# Altium footprint library Connector_Phoenix_MSTB.PcbLib: 180 footprints (part 8 of 12)
Each footprint in its own frame and in the unit in brackets; x right, y up, seen from the top. Pads: shape width x height; smd on the part's side, far side on the other; paste and mask are expansions set on the pad; w line width, h text height; cw(c..) or ccw(c..) is an arc to the next point about the centre after c.
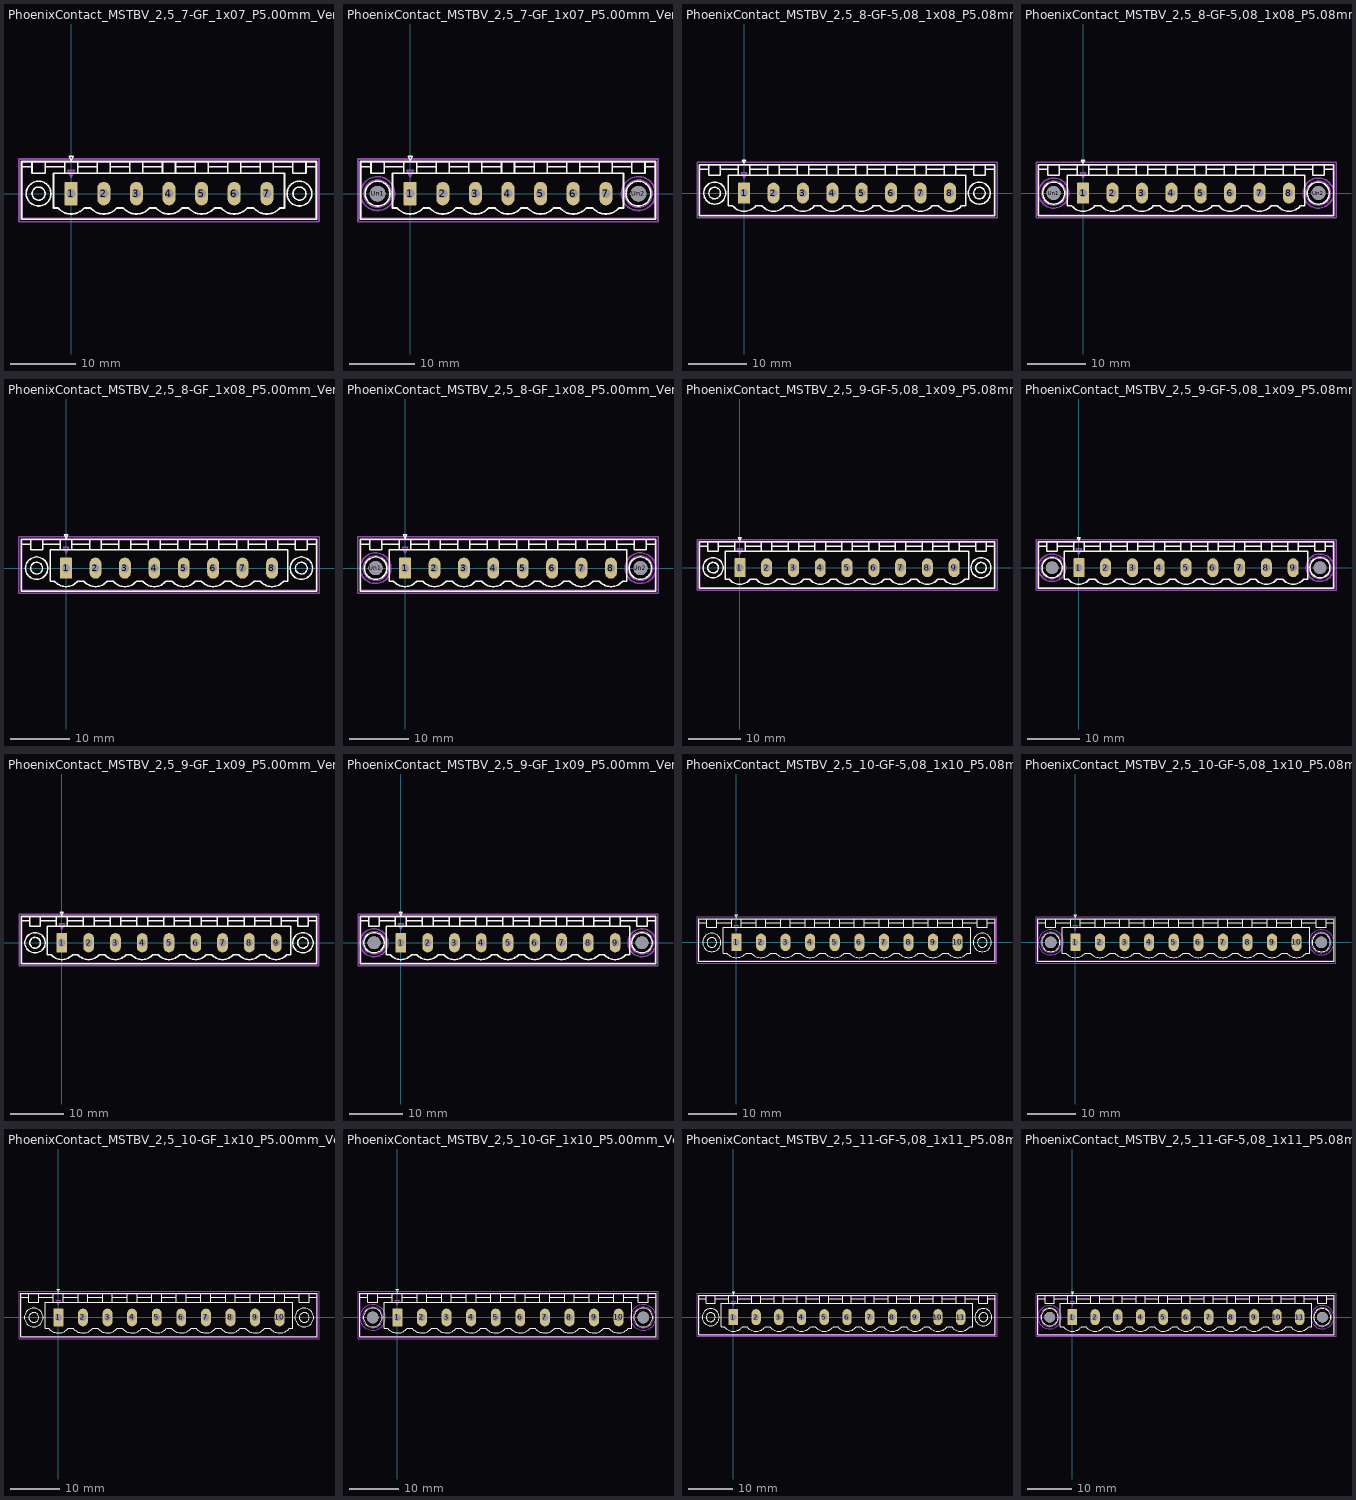
[diagram p7: the footprints below, top view; thin cyan lines are the x and y axes]

## PhoenixContact_MSTBV_2,5_7-GF_1x07_P5.00mm_Vertical_ThreadedFlange [mm]
pads (7):
  rrect12% 2x3.6 hole 1.4: 1(0,0)
  rrect100% 2x3.6 hole 1.4: 2(5,0) 3(10,0) 4(15,0) 5(20,0) 6(25,0) 7(30,0)
F.SilkS:
  circle w0.254: c35,0 r1.9
  circle w0.254: c35,0 r1
  circle w0.254: c-5,0 r1.9
  circle w0.254: c-5,0 r1
  lines w0.254: -7.61,4.1 -6.11,4.1 ; -4,4.1 -1,4.1 ; 1,4.1 4,4.1 ; 1.987,-2.216 cw(c0,-0.55) -2,-2.2 -2.7,-2.2 -2.7,3.1 32.7,3.1 32.7,-2.2 32,-2.2 ; 2,-2.2 3,-2.2 ccw(c5,-0.55) 6.987,-2.216 ; 6,4.1 9,4.1 ; 7,-2.2 8,-2.2 ccw(c10,-0.55) 11.987,-2.216 ; 11,4.1 14,4.1 ; 12,-2.2 13,-2.2 ccw(c15,-0.55) 16.987,-2.216 ; 16,4.1 19,4.1 ; 17,-2.2 18,-2.2 ccw(c20,-0.55) 21.987,-2.216 ; 21,4.1 24,4.1 ; 22,-2.2 23,-2.2 ccw(c25,-0.55) 26.987,-2.216 ; 26,4.1 29,4.1 ; 27,-2.2 28,-2.2 ccw(c30,-0.55) 31.987,-2.216 ; 31,4.1 34,4.1 ; 36.11,4.1 37.61,4.1 ; -7.61,-3.91 37.61,-3.91 37.61,4.91 -7.61,4.91 -7.61,-3.91 ; -6,3.1 -4,3.1 -4,4.91 -6,4.91 -6,3.1 ; -1,3.1 1,3.1 1,4.91 -1,4.91 -1,3.1 ; -0.3,5.71 0,5.11 0.3,5.71 -0.3,5.71 ; 4,3.1 6,3.1 6,4.91 4,4.91 4,3.1 ; 9,3.1 11,3.1 11,4.91 9,4.91 9,3.1 ; 14,3.1 16,3.1 16,4.91 14,4.91 14,3.1 ; 19,3.1 21,3.1 21,4.91 19,4.91 19,3.1 ; 24,3.1 26,3.1 26,4.91 24,4.91 24,3.1 ; 29,3.1 31,3.1 31,4.91 29,4.91 29,3.1 ; 34,3.1 36,3.1 36,4.91 34,4.91 34,3.1
Top Assembly:
  lines w0.254: -7.5,-3.8 37.5,-3.8 37.5,4.8 -7.5,4.8 -7.5,-3.8 ; -0.5,3.55 0,2.55 0.5,3.55 -0.5,3.55
  text "'.Designator'" at 10.953,3.26 h1
Top Courtyard:
  lines w0.254: -8,-4.3 38,-4.3 38,5.3 -8,5.3 -8,-4.3
Top Designator:
  text ".Designator" at 7.382,0.197 h1.52

## PhoenixContact_MSTBV_2,5_7-GF_1x07_P5.00mm_Vertical_ThreadedFlange_MountHole [mm]
pads (9):
  rrect12% 2x3.6 hole 1.4: 1(0,0)
  rrect100% 2x3.6 hole 1.4: 2(5,0) 3(10,0) 4(15,0) 5(20,0) 6(25,0) 7(30,0)
  round 2.4 hole 2.4: Un1(-5,0) Un2(35,0)
F.SilkS:
  circle w0.254: c35,0 r1.9
  circle w0.254: c-5,0 r1.9
  lines w0.254: -7.61,4.1 -6.11,4.1 ; -4,4.1 -1,4.1 ; 1,4.1 4,4.1 ; 1.987,-2.216 cw(c0,-0.55) -2,-2.2 -2.7,-2.2 -2.7,3.1 32.7,3.1 32.7,-2.2 32,-2.2 ; 2,-2.2 3,-2.2 ccw(c5,-0.55) 6.987,-2.216 ; 6,4.1 9,4.1 ; 7,-2.2 8,-2.2 ccw(c10,-0.55) 11.987,-2.216 ; 11,4.1 14,4.1 ; 12,-2.2 13,-2.2 ccw(c15,-0.55) 16.987,-2.216 ; 16,4.1 19,4.1 ; 17,-2.2 18,-2.2 ccw(c20,-0.55) 21.987,-2.216 ; 21,4.1 24,4.1 ; 22,-2.2 23,-2.2 ccw(c25,-0.55) 26.987,-2.216 ; 26,4.1 29,4.1 ; 27,-2.2 28,-2.2 ccw(c30,-0.55) 31.987,-2.216 ; 31,4.1 34,4.1 ; 36.11,4.1 37.61,4.1 ; -7.61,-3.91 37.61,-3.91 37.61,4.91 -7.61,4.91 -7.61,-3.91 ; -6,3.1 -4,3.1 -4,4.91 -6,4.91 -6,3.1 ; -1,3.1 1,3.1 1,4.91 -1,4.91 -1,3.1 ; -0.3,5.71 0,5.11 0.3,5.71 -0.3,5.71 ; 4,3.1 6,3.1 6,4.91 4,4.91 4,3.1 ; 9,3.1 11,3.1 11,4.91 9,4.91 9,3.1 ; 14,3.1 16,3.1 16,4.91 14,4.91 14,3.1 ; 19,3.1 21,3.1 21,4.91 19,4.91 19,3.1 ; 24,3.1 26,3.1 26,4.91 24,4.91 24,3.1 ; 29,3.1 31,3.1 31,4.91 29,4.91 29,3.1 ; 34,3.1 36,3.1 36,4.91 34,4.91 34,3.1
B.SilkS:
  circle w0.254: c35,0 r2.21
  circle w0.254: c-5,0 r2.21
Top Assembly:
  lines w0.254: -7.5,-3.8 37.5,-3.8 37.5,4.8 -7.5,4.8 -7.5,-3.8 ; -0.5,3.55 0,2.55 0.5,3.55 -0.5,3.55
  text "'.Designator'" at 10.953,3.26 h1
Bottom Assembly:
  circle w0.254: c35,0 r2.1
  circle w0.254: c-5,0 r2.1
Top Courtyard:
  lines w0.254: -8,-4.3 38,-4.3 38,5.3 -8,5.3 -8,-4.3
Bottom Courtyard:
  circle w0.254: c35,0 r2.6
  circle w0.254: c-5,0 r2.6
Top Designator:
  text ".Designator" at 7.382,0.197 h1.52

## PhoenixContact_MSTBV_2,5_8-GF-5,08_1x08_P5.08mm_Vertical_ThreadedFlange [mm]
pads (8):
  rrect12% 2.08x3.6 hole 1.4: 1(0,0)
  rrect100% 2.08x3.6 hole 1.4: 2(5.08,0) 3(10.16,0) 4(15.24,0) 5(20.32,0) 6(25.4,0) 7(30.48,0) 8(35.56,0)
F.SilkS:
  circle w0.254: c40.64,0 r1.9
  circle w0.254: c40.64,0 r1
  circle w0.254: c-5.08,0 r1.9
  circle w0.254: c-5.08,0 r1
  lines w0.254: -7.73,4.1 -6.19,4.1 ; -4.08,4.1 -1,4.1 ; 1,4.1 4.08,4.1 ; 1.987,-2.216 cw(c0,-0.55) -2,-2.2 -2.74,-2.2 -2.74,3.1 38.3,3.1 38.3,-2.2 37.56,-2.2 ; 2,-2.2 3.08,-2.2 ccw(c5.08,-0.55) 7.067,-2.216 ; 6.08,4.1 9.16,4.1 ; 7.08,-2.2 8.16,-2.2 ccw(c10.16,-0.55) 12.147,-2.216 ; 11.16,4.1 14.24,4.1 ; 12.16,-2.2 13.24,-2.2 ccw(c15.24,-0.55) 17.227,-2.216 ; 16.24,4.1 19.32,4.1 ; 17.24,-2.2 18.32,-2.2 ccw(c20.32,-0.55) 22.307,-2.216 ; 21.32,4.1 24.4,4.1 ; 22.32,-2.2 23.4,-2.2 ccw(c25.4,-0.55) 27.387,-2.216 ; 26.4,4.1 29.48,4.1 ; 27.4,-2.2 28.48,-2.2 ccw(c30.48,-0.55) 32.467,-2.216 ; 31.48,4.1 34.56,4.1 ; 32.48,-2.2 33.56,-2.2 ccw(c35.56,-0.55) 37.547,-2.216 ; 36.56,4.1 39.64,4.1 ; 41.75,4.1 43.29,4.1 ; -7.73,-3.91 43.29,-3.91 43.29,4.91 -7.73,4.91 -7.73,-3.91 ; -6.08,3.1 -4.08,3.1 -4.08,4.91 -6.08,4.91 -6.08,3.1 ; -1,3.1 1,3.1 1,4.91 -1,4.91 -1,3.1 ; -0.3,5.71 0,5.11 0.3,5.71 -0.3,5.71 ; 4.08,3.1 6.08,3.1 6.08,4.91 4.08,4.91 4.08,3.1 ; 9.16,3.1 11.16,3.1 11.16,4.91 9.16,4.91 9.16,3.1 ; 14.24,3.1 16.24,3.1 16.24,4.91 14.24,4.91 14.24,3.1 ; 19.32,3.1 21.32,3.1 21.32,4.91 19.32,4.91 19.32,3.1 ; 24.4,3.1 26.4,3.1 26.4,4.91 24.4,4.91 24.4,3.1 ; 29.48,3.1 31.48,3.1 31.48,4.91 29.48,4.91 29.48,3.1 ; 34.56,3.1 36.56,3.1 36.56,4.91 34.56,4.91 34.56,3.1 ; 39.64,3.1 41.64,3.1 41.64,4.91 39.64,4.91 39.64,3.1
Top Assembly:
  lines w0.254: -7.62,-3.8 43.18,-3.8 43.18,4.8 -7.62,4.8 -7.62,-3.8 ; -0.5,3.55 0,2.55 0.5,3.55 -0.5,3.55
  text "'.Designator'" at 13.733,3.26 h1
Top Courtyard:
  lines w0.254: -8.13,-4.3 43.69,-4.3 43.69,5.3 -8.13,5.3 -8.13,-4.3
Top Designator:
  text ".Designator" at 10.162,0.197 h1.52

## PhoenixContact_MSTBV_2,5_8-GF-5,08_1x08_P5.08mm_Vertical_ThreadedFlange_MountHole [mm]
pads (10):
  rrect12% 2.08x3.6 hole 1.4: 1(0,0)
  rrect100% 2.08x3.6 hole 1.4: 2(5.08,0) 3(10.16,0) 4(15.24,0) 5(20.32,0) 6(25.4,0) 7(30.48,0) 8(35.56,0)
  round 2.4 hole 2.4: Un1(-5.08,0) Un2(40.64,0)
F.SilkS:
  circle w0.254: c40.64,0 r1.9
  circle w0.254: c-5.08,0 r1.9
  lines w0.254: -7.73,4.1 -6.19,4.1 ; -4.08,4.1 -1,4.1 ; 1,4.1 4.08,4.1 ; 1.987,-2.216 cw(c0,-0.55) -2,-2.2 -2.74,-2.2 -2.74,3.1 38.3,3.1 38.3,-2.2 37.56,-2.2 ; 2,-2.2 3.08,-2.2 ccw(c5.08,-0.55) 7.067,-2.216 ; 6.08,4.1 9.16,4.1 ; 7.08,-2.2 8.16,-2.2 ccw(c10.16,-0.55) 12.147,-2.216 ; 11.16,4.1 14.24,4.1 ; 12.16,-2.2 13.24,-2.2 ccw(c15.24,-0.55) 17.227,-2.216 ; 16.24,4.1 19.32,4.1 ; 17.24,-2.2 18.32,-2.2 ccw(c20.32,-0.55) 22.307,-2.216 ; 21.32,4.1 24.4,4.1 ; 22.32,-2.2 23.4,-2.2 ccw(c25.4,-0.55) 27.387,-2.216 ; 26.4,4.1 29.48,4.1 ; 27.4,-2.2 28.48,-2.2 ccw(c30.48,-0.55) 32.467,-2.216 ; 31.48,4.1 34.56,4.1 ; 32.48,-2.2 33.56,-2.2 ccw(c35.56,-0.55) 37.547,-2.216 ; 36.56,4.1 39.64,4.1 ; 41.75,4.1 43.29,4.1 ; -7.73,-3.91 43.29,-3.91 43.29,4.91 -7.73,4.91 -7.73,-3.91 ; -6.08,3.1 -4.08,3.1 -4.08,4.91 -6.08,4.91 -6.08,3.1 ; -1,3.1 1,3.1 1,4.91 -1,4.91 -1,3.1 ; -0.3,5.71 0,5.11 0.3,5.71 -0.3,5.71 ; 4.08,3.1 6.08,3.1 6.08,4.91 4.08,4.91 4.08,3.1 ; 9.16,3.1 11.16,3.1 11.16,4.91 9.16,4.91 9.16,3.1 ; 14.24,3.1 16.24,3.1 16.24,4.91 14.24,4.91 14.24,3.1 ; 19.32,3.1 21.32,3.1 21.32,4.91 19.32,4.91 19.32,3.1 ; 24.4,3.1 26.4,3.1 26.4,4.91 24.4,4.91 24.4,3.1 ; 29.48,3.1 31.48,3.1 31.48,4.91 29.48,4.91 29.48,3.1 ; 34.56,3.1 36.56,3.1 36.56,4.91 34.56,4.91 34.56,3.1 ; 39.64,3.1 41.64,3.1 41.64,4.91 39.64,4.91 39.64,3.1
B.SilkS:
  circle w0.254: c40.64,0 r2.21
  circle w0.254: c-5.08,0 r2.21
Top Assembly:
  lines w0.254: -7.62,-3.8 43.18,-3.8 43.18,4.8 -7.62,4.8 -7.62,-3.8 ; -0.5,3.55 0,2.55 0.5,3.55 -0.5,3.55
  text "'.Designator'" at 13.733,3.26 h1
Bottom Assembly:
  circle w0.254: c40.64,0 r2.1
  circle w0.254: c-5.08,0 r2.1
Top Courtyard:
  lines w0.254: -8.13,-4.3 43.69,-4.3 43.69,5.3 -8.13,5.3 -8.13,-4.3
Bottom Courtyard:
  circle w0.254: c40.64,0 r2.6
  circle w0.254: c-5.08,0 r2.6
Top Designator:
  text ".Designator" at 10.162,0.197 h1.52

## PhoenixContact_MSTBV_2,5_8-GF_1x08_P5.00mm_Vertical_ThreadedFlange [mm]
pads (8):
  rrect12% 2x3.6 hole 1.4: 1(0,0)
  rrect100% 2x3.6 hole 1.4: 2(5,0) 3(10,0) 4(15,0) 5(20,0) 6(25,0) 7(30,0) 8(35,0)
F.SilkS:
  circle w0.254: c40,0 r1.9
  circle w0.254: c40,0 r1
  circle w0.254: c-5,0 r1.9
  circle w0.254: c-5,0 r1
  lines w0.254: -7.61,4.1 -6.11,4.1 ; -4,4.1 -1,4.1 ; 1,4.1 4,4.1 ; 1.987,-2.216 cw(c0,-0.55) -2,-2.2 -2.7,-2.2 -2.7,3.1 37.7,3.1 37.7,-2.2 37,-2.2 ; 2,-2.2 3,-2.2 ccw(c5,-0.55) 6.987,-2.216 ; 6,4.1 9,4.1 ; 7,-2.2 8,-2.2 ccw(c10,-0.55) 11.987,-2.216 ; 11,4.1 14,4.1 ; 12,-2.2 13,-2.2 ccw(c15,-0.55) 16.987,-2.216 ; 16,4.1 19,4.1 ; 17,-2.2 18,-2.2 ccw(c20,-0.55) 21.987,-2.216 ; 21,4.1 24,4.1 ; 22,-2.2 23,-2.2 ccw(c25,-0.55) 26.987,-2.216 ; 26,4.1 29,4.1 ; 27,-2.2 28,-2.2 ccw(c30,-0.55) 31.987,-2.216 ; 31,4.1 34,4.1 ; 32,-2.2 33,-2.2 ccw(c35,-0.55) 36.987,-2.216 ; 36,4.1 39,4.1 ; 41.11,4.1 42.61,4.1 ; -7.61,-3.91 42.61,-3.91 42.61,4.91 -7.61,4.91 -7.61,-3.91 ; -6,3.1 -4,3.1 -4,4.91 -6,4.91 -6,3.1 ; -1,3.1 1,3.1 1,4.91 -1,4.91 -1,3.1 ; -0.3,5.71 0,5.11 0.3,5.71 -0.3,5.71 ; 4,3.1 6,3.1 6,4.91 4,4.91 4,3.1 ; 9,3.1 11,3.1 11,4.91 9,4.91 9,3.1 ; 14,3.1 16,3.1 16,4.91 14,4.91 14,3.1 ; 19,3.1 21,3.1 21,4.91 19,4.91 19,3.1 ; 24,3.1 26,3.1 26,4.91 24,4.91 24,3.1 ; 29,3.1 31,3.1 31,4.91 29,4.91 29,3.1 ; 34,3.1 36,3.1 36,4.91 34,4.91 34,3.1 ; 39,3.1 41,3.1 41,4.91 39,4.91 39,3.1
Top Assembly:
  lines w0.254: -7.5,-3.8 42.5,-3.8 42.5,4.8 -7.5,4.8 -7.5,-3.8 ; -0.5,3.55 0,2.55 0.5,3.55 -0.5,3.55
  text "'.Designator'" at 13.453,3.26 h1
Top Courtyard:
  lines w0.254: -8,-4.3 43,-4.3 43,5.3 -8,5.3 -8,-4.3
Top Designator:
  text ".Designator" at 9.882,0.197 h1.52

## PhoenixContact_MSTBV_2,5_8-GF_1x08_P5.00mm_Vertical_ThreadedFlange_MountHole [mm]
pads (10):
  rrect12% 2x3.6 hole 1.4: 1(0,0)
  rrect100% 2x3.6 hole 1.4: 2(5,0) 3(10,0) 4(15,0) 5(20,0) 6(25,0) 7(30,0) 8(35,0)
  round 2.4 hole 2.4: Un1(-5,0) Un2(40,0)
F.SilkS:
  circle w0.254: c40,0 r1.9
  circle w0.254: c-5,0 r1.9
  lines w0.254: -7.61,4.1 -6.11,4.1 ; -4,4.1 -1,4.1 ; 1,4.1 4,4.1 ; 1.987,-2.216 cw(c0,-0.55) -2,-2.2 -2.7,-2.2 -2.7,3.1 37.7,3.1 37.7,-2.2 37,-2.2 ; 2,-2.2 3,-2.2 ccw(c5,-0.55) 6.987,-2.216 ; 6,4.1 9,4.1 ; 7,-2.2 8,-2.2 ccw(c10,-0.55) 11.987,-2.216 ; 11,4.1 14,4.1 ; 12,-2.2 13,-2.2 ccw(c15,-0.55) 16.987,-2.216 ; 16,4.1 19,4.1 ; 17,-2.2 18,-2.2 ccw(c20,-0.55) 21.987,-2.216 ; 21,4.1 24,4.1 ; 22,-2.2 23,-2.2 ccw(c25,-0.55) 26.987,-2.216 ; 26,4.1 29,4.1 ; 27,-2.2 28,-2.2 ccw(c30,-0.55) 31.987,-2.216 ; 31,4.1 34,4.1 ; 32,-2.2 33,-2.2 ccw(c35,-0.55) 36.987,-2.216 ; 36,4.1 39,4.1 ; 41.11,4.1 42.61,4.1 ; -7.61,-3.91 42.61,-3.91 42.61,4.91 -7.61,4.91 -7.61,-3.91 ; -6,3.1 -4,3.1 -4,4.91 -6,4.91 -6,3.1 ; -1,3.1 1,3.1 1,4.91 -1,4.91 -1,3.1 ; -0.3,5.71 0,5.11 0.3,5.71 -0.3,5.71 ; 4,3.1 6,3.1 6,4.91 4,4.91 4,3.1 ; 9,3.1 11,3.1 11,4.91 9,4.91 9,3.1 ; 14,3.1 16,3.1 16,4.91 14,4.91 14,3.1 ; 19,3.1 21,3.1 21,4.91 19,4.91 19,3.1 ; 24,3.1 26,3.1 26,4.91 24,4.91 24,3.1 ; 29,3.1 31,3.1 31,4.91 29,4.91 29,3.1 ; 34,3.1 36,3.1 36,4.91 34,4.91 34,3.1 ; 39,3.1 41,3.1 41,4.91 39,4.91 39,3.1
B.SilkS:
  circle w0.254: c40,0 r2.21
  circle w0.254: c-5,0 r2.21
Top Assembly:
  lines w0.254: -7.5,-3.8 42.5,-3.8 42.5,4.8 -7.5,4.8 -7.5,-3.8 ; -0.5,3.55 0,2.55 0.5,3.55 -0.5,3.55
  text "'.Designator'" at 13.453,3.26 h1
Bottom Assembly:
  circle w0.254: c40,0 r2.1
  circle w0.254: c-5,0 r2.1
Top Courtyard:
  lines w0.254: -8,-4.3 43,-4.3 43,5.3 -8,5.3 -8,-4.3
Bottom Courtyard:
  circle w0.254: c40,0 r2.6
  circle w0.254: c-5,0 r2.6
Top Designator:
  text ".Designator" at 9.882,0.197 h1.52

## PhoenixContact_MSTBV_2,5_9-GF-5,08_1x09_P5.08mm_Vertical_ThreadedFlange [mm]
pads (9):
  rrect12% 2.08x3.6 hole 1.4: 1(0,0)
  rrect100% 2.08x3.6 hole 1.4: 2(5.08,0) 3(10.16,0) 4(15.24,0) 5(20.32,0) 6(25.4,0) 7(30.48,0) 8(35.56,0) 9(40.64,0)
F.SilkS:
  circle w0.254: c45.72,0 r1.9
  circle w0.254: c45.72,0 r1
  circle w0.254: c-5.08,0 r1.9
  circle w0.254: c-5.08,0 r1
  lines w0.254: -7.73,4.1 -6.19,4.1 ; -4.08,4.1 -1,4.1 ; 1,4.1 4.08,4.1 ; 1.987,-2.216 cw(c0,-0.55) -2,-2.2 -2.74,-2.2 -2.74,3.1 43.38,3.1 43.38,-2.2 42.64,-2.2 ; 2,-2.2 3.08,-2.2 ccw(c5.08,-0.55) 7.067,-2.216 ; 6.08,4.1 9.16,4.1 ; 7.08,-2.2 8.16,-2.2 ccw(c10.16,-0.55) 12.147,-2.216 ; 11.16,4.1 14.24,4.1 ; 12.16,-2.2 13.24,-2.2 ccw(c15.24,-0.55) 17.227,-2.216 ; 16.24,4.1 19.32,4.1 ; 17.24,-2.2 18.32,-2.2 ccw(c20.32,-0.55) 22.307,-2.216 ; 21.32,4.1 24.4,4.1 ; 22.32,-2.2 23.4,-2.2 ccw(c25.4,-0.55) 27.387,-2.216 ; 26.4,4.1 29.48,4.1 ; 27.4,-2.2 28.48,-2.2 ccw(c30.48,-0.55) 32.467,-2.216 ; 31.48,4.1 34.56,4.1 ; 32.48,-2.2 33.56,-2.2 ccw(c35.56,-0.55) 37.547,-2.216 ; 36.56,4.1 39.64,4.1 ; 37.56,-2.2 38.64,-2.2 ccw(c40.64,-0.55) 42.627,-2.216 ; 41.64,4.1 44.72,4.1 ; 46.83,4.1 48.37,4.1 ; -7.73,-3.91 48.37,-3.91 48.37,4.91 -7.73,4.91 -7.73,-3.91 ; -6.08,3.1 -4.08,3.1 -4.08,4.91 -6.08,4.91 -6.08,3.1 ; -1,3.1 1,3.1 1,4.91 -1,4.91 -1,3.1 ; -0.3,5.71 0,5.11 0.3,5.71 -0.3,5.71 ; 4.08,3.1 6.08,3.1 6.08,4.91 4.08,4.91 4.08,3.1 ; 9.16,3.1 11.16,3.1 11.16,4.91 9.16,4.91 9.16,3.1 ; 14.24,3.1 16.24,3.1 16.24,4.91 14.24,4.91 14.24,3.1 ; 19.32,3.1 21.32,3.1 21.32,4.91 19.32,4.91 19.32,3.1 ; 24.4,3.1 26.4,3.1 26.4,4.91 24.4,4.91 24.4,3.1 ; 29.48,3.1 31.48,3.1 31.48,4.91 29.48,4.91 29.48,3.1 ; 34.56,3.1 36.56,3.1 36.56,4.91 34.56,4.91 34.56,3.1 ; 39.64,3.1 41.64,3.1 41.64,4.91 39.64,4.91 39.64,3.1 ; 44.72,3.1 46.72,3.1 46.72,4.91 44.72,4.91 44.72,3.1
Top Assembly:
  lines w0.254: -7.62,-3.8 48.26,-3.8 48.26,4.8 -7.62,4.8 -7.62,-3.8 ; -0.5,3.55 0,2.55 0.5,3.55 -0.5,3.55
  text "'.Designator'" at 16.273,3.26 h1
Top Courtyard:
  lines w0.254: -8.13,-4.3 48.76,-4.3 48.76,5.3 -8.13,5.3 -8.13,-4.3
Top Designator:
  text ".Designator" at 12.697,0.197 h1.52

## PhoenixContact_MSTBV_2,5_9-GF-5,08_1x09_P5.08mm_Vertical_ThreadedFlange_MountHole [mm]
pads (11):
  rrect12% 2.08x3.6 hole 1.4: 1(0,0)
  rrect100% 2.08x3.6 hole 1.4: 2(5.08,0) 3(10.16,0) 4(15.24,0) 5(20.32,0) 6(25.4,0) 7(30.48,0) 8(35.56,0) 9(40.64,0)
  round 2.4 hole 2.4: Un1(-5.08,0) Un2(45.72,0)
F.SilkS:
  circle w0.254: c45.72,0 r1.9
  circle w0.254: c-5.08,0 r1.9
  lines w0.254: -7.73,4.1 -6.19,4.1 ; -4.08,4.1 -1,4.1 ; 1,4.1 4.08,4.1 ; 1.987,-2.216 cw(c0,-0.55) -2,-2.2 -2.74,-2.2 -2.74,3.1 43.38,3.1 43.38,-2.2 42.64,-2.2 ; 2,-2.2 3.08,-2.2 ccw(c5.08,-0.55) 7.067,-2.216 ; 6.08,4.1 9.16,4.1 ; 7.08,-2.2 8.16,-2.2 ccw(c10.16,-0.55) 12.147,-2.216 ; 11.16,4.1 14.24,4.1 ; 12.16,-2.2 13.24,-2.2 ccw(c15.24,-0.55) 17.227,-2.216 ; 16.24,4.1 19.32,4.1 ; 17.24,-2.2 18.32,-2.2 ccw(c20.32,-0.55) 22.307,-2.216 ; 21.32,4.1 24.4,4.1 ; 22.32,-2.2 23.4,-2.2 ccw(c25.4,-0.55) 27.387,-2.216 ; 26.4,4.1 29.48,4.1 ; 27.4,-2.2 28.48,-2.2 ccw(c30.48,-0.55) 32.467,-2.216 ; 31.48,4.1 34.56,4.1 ; 32.48,-2.2 33.56,-2.2 ccw(c35.56,-0.55) 37.547,-2.216 ; 36.56,4.1 39.64,4.1 ; 37.56,-2.2 38.64,-2.2 ccw(c40.64,-0.55) 42.627,-2.216 ; 41.64,4.1 44.72,4.1 ; 46.83,4.1 48.37,4.1 ; -7.73,-3.91 48.37,-3.91 48.37,4.91 -7.73,4.91 -7.73,-3.91 ; -6.08,3.1 -4.08,3.1 -4.08,4.91 -6.08,4.91 -6.08,3.1 ; -1,3.1 1,3.1 1,4.91 -1,4.91 -1,3.1 ; -0.3,5.71 0,5.11 0.3,5.71 -0.3,5.71 ; 4.08,3.1 6.08,3.1 6.08,4.91 4.08,4.91 4.08,3.1 ; 9.16,3.1 11.16,3.1 11.16,4.91 9.16,4.91 9.16,3.1 ; 14.24,3.1 16.24,3.1 16.24,4.91 14.24,4.91 14.24,3.1 ; 19.32,3.1 21.32,3.1 21.32,4.91 19.32,4.91 19.32,3.1 ; 24.4,3.1 26.4,3.1 26.4,4.91 24.4,4.91 24.4,3.1 ; 29.48,3.1 31.48,3.1 31.48,4.91 29.48,4.91 29.48,3.1 ; 34.56,3.1 36.56,3.1 36.56,4.91 34.56,4.91 34.56,3.1 ; 39.64,3.1 41.64,3.1 41.64,4.91 39.64,4.91 39.64,3.1 ; 44.72,3.1 46.72,3.1 46.72,4.91 44.72,4.91 44.72,3.1
B.SilkS:
  circle w0.254: c45.72,0 r2.21
  circle w0.254: c-5.08,0 r2.21
Top Assembly:
  lines w0.254: -7.62,-3.8 48.26,-3.8 48.26,4.8 -7.62,4.8 -7.62,-3.8 ; -0.5,3.55 0,2.55 0.5,3.55 -0.5,3.55
  text "'.Designator'" at 16.273,3.26 h1
Bottom Assembly:
  circle w0.254: c45.72,0 r2.1
  circle w0.254: c-5.08,0 r2.1
Top Courtyard:
  lines w0.254: -8.13,-4.3 48.76,-4.3 48.76,5.3 -8.13,5.3 -8.13,-4.3
Bottom Courtyard:
  circle w0.254: c45.72,0 r2.6
  circle w0.254: c-5.08,0 r2.6
Top Designator:
  text ".Designator" at 12.697,0.197 h1.52

## PhoenixContact_MSTBV_2,5_9-GF_1x09_P5.00mm_Vertical_ThreadedFlange [mm]
pads (9):
  rrect12% 2x3.6 hole 1.4: 1(0,0)
  rrect100% 2x3.6 hole 1.4: 2(5,0) 3(10,0) 4(15,0) 5(20,0) 6(25,0) 7(30,0) 8(35,0) 9(40,0)
F.SilkS:
  circle w0.254: c45,0 r1.9
  circle w0.254: c45,0 r1
  circle w0.254: c-5,0 r1.9
  circle w0.254: c-5,0 r1
  lines w0.254: -7.61,4.1 -6.11,4.1 ; -4,4.1 -1,4.1 ; 1,4.1 4,4.1 ; 1.987,-2.216 cw(c0,-0.55) -2,-2.2 -2.7,-2.2 -2.7,3.1 42.7,3.1 42.7,-2.2 42,-2.2 ; 2,-2.2 3,-2.2 ccw(c5,-0.55) 6.987,-2.216 ; 6,4.1 9,4.1 ; 7,-2.2 8,-2.2 ccw(c10,-0.55) 11.987,-2.216 ; 11,4.1 14,4.1 ; 12,-2.2 13,-2.2 ccw(c15,-0.55) 16.987,-2.216 ; 16,4.1 19,4.1 ; 17,-2.2 18,-2.2 ccw(c20,-0.55) 21.987,-2.216 ; 21,4.1 24,4.1 ; 22,-2.2 23,-2.2 ccw(c25,-0.55) 26.987,-2.216 ; 26,4.1 29,4.1 ; 27,-2.2 28,-2.2 ccw(c30,-0.55) 31.987,-2.216 ; 31,4.1 34,4.1 ; 32,-2.2 33,-2.2 ccw(c35,-0.55) 36.987,-2.216 ; 36,4.1 39,4.1 ; 37,-2.2 38,-2.2 ccw(c40,-0.55) 41.987,-2.216 ; 41,4.1 44,4.1 ; 46.11,4.1 47.61,4.1 ; -7.61,-3.91 47.61,-3.91 47.61,4.91 -7.61,4.91 -7.61,-3.91 ; -6,3.1 -4,3.1 -4,4.91 -6,4.91 -6,3.1 ; -1,3.1 1,3.1 1,4.91 -1,4.91 -1,3.1 ; -0.3,5.71 0,5.11 0.3,5.71 -0.3,5.71 ; 4,3.1 6,3.1 6,4.91 4,4.91 4,3.1 ; 9,3.1 11,3.1 11,4.91 9,4.91 9,3.1 ; 14,3.1 16,3.1 16,4.91 14,4.91 14,3.1 ; 19,3.1 21,3.1 21,4.91 19,4.91 19,3.1 ; 24,3.1 26,3.1 26,4.91 24,4.91 24,3.1 ; 29,3.1 31,3.1 31,4.91 29,4.91 29,3.1 ; 34,3.1 36,3.1 36,4.91 34,4.91 34,3.1 ; 39,3.1 41,3.1 41,4.91 39,4.91 39,3.1 ; 44,3.1 46,3.1 46,4.91 44,4.91 44,3.1
Top Assembly:
  lines w0.254: -7.5,-3.8 47.5,-3.8 47.5,4.8 -7.5,4.8 -7.5,-3.8 ; -0.5,3.55 0,2.55 0.5,3.55 -0.5,3.55
  text "'.Designator'" at 15.953,3.26 h1
Top Courtyard:
  lines w0.254: -8,-4.3 48,-4.3 48,5.3 -8,5.3 -8,-4.3
Top Designator:
  text ".Designator" at 12.382,0.197 h1.52

## PhoenixContact_MSTBV_2,5_9-GF_1x09_P5.00mm_Vertical_ThreadedFlange_MountHole [mm]
pads (11):
  rrect12% 2x3.6 hole 1.4: 1(0,0)
  rrect100% 2x3.6 hole 1.4: 2(5,0) 3(10,0) 4(15,0) 5(20,0) 6(25,0) 7(30,0) 8(35,0) 9(40,0)
  round 2.4 hole 2.4: Un1(-5,0) Un2(45,0)
F.SilkS:
  circle w0.254: c45,0 r1.9
  circle w0.254: c-5,0 r1.9
  lines w0.254: -7.61,4.1 -6.11,4.1 ; -4,4.1 -1,4.1 ; 1,4.1 4,4.1 ; 1.987,-2.216 cw(c0,-0.55) -2,-2.2 -2.7,-2.2 -2.7,3.1 42.7,3.1 42.7,-2.2 42,-2.2 ; 2,-2.2 3,-2.2 ccw(c5,-0.55) 6.987,-2.216 ; 6,4.1 9,4.1 ; 7,-2.2 8,-2.2 ccw(c10,-0.55) 11.987,-2.216 ; 11,4.1 14,4.1 ; 12,-2.2 13,-2.2 ccw(c15,-0.55) 16.987,-2.216 ; 16,4.1 19,4.1 ; 17,-2.2 18,-2.2 ccw(c20,-0.55) 21.987,-2.216 ; 21,4.1 24,4.1 ; 22,-2.2 23,-2.2 ccw(c25,-0.55) 26.987,-2.216 ; 26,4.1 29,4.1 ; 27,-2.2 28,-2.2 ccw(c30,-0.55) 31.987,-2.216 ; 31,4.1 34,4.1 ; 32,-2.2 33,-2.2 ccw(c35,-0.55) 36.987,-2.216 ; 36,4.1 39,4.1 ; 37,-2.2 38,-2.2 ccw(c40,-0.55) 41.987,-2.216 ; 41,4.1 44,4.1 ; 46.11,4.1 47.61,4.1 ; -7.61,-3.91 47.61,-3.91 47.61,4.91 -7.61,4.91 -7.61,-3.91 ; -6,3.1 -4,3.1 -4,4.91 -6,4.91 -6,3.1 ; -1,3.1 1,3.1 1,4.91 -1,4.91 -1,3.1 ; -0.3,5.71 0,5.11 0.3,5.71 -0.3,5.71 ; 4,3.1 6,3.1 6,4.91 4,4.91 4,3.1 ; 9,3.1 11,3.1 11,4.91 9,4.91 9,3.1 ; 14,3.1 16,3.1 16,4.91 14,4.91 14,3.1 ; 19,3.1 21,3.1 21,4.91 19,4.91 19,3.1 ; 24,3.1 26,3.1 26,4.91 24,4.91 24,3.1 ; 29,3.1 31,3.1 31,4.91 29,4.91 29,3.1 ; 34,3.1 36,3.1 36,4.91 34,4.91 34,3.1 ; 39,3.1 41,3.1 41,4.91 39,4.91 39,3.1 ; 44,3.1 46,3.1 46,4.91 44,4.91 44,3.1
B.SilkS:
  circle w0.254: c45,0 r2.21
  circle w0.254: c-5,0 r2.21
Top Assembly:
  lines w0.254: -7.5,-3.8 47.5,-3.8 47.5,4.8 -7.5,4.8 -7.5,-3.8 ; -0.5,3.55 0,2.55 0.5,3.55 -0.5,3.55
  text "'.Designator'" at 15.953,3.26 h1
Bottom Assembly:
  circle w0.254: c45,0 r2.1
  circle w0.254: c-5,0 r2.1
Top Courtyard:
  lines w0.254: -8,-4.3 48,-4.3 48,5.3 -8,5.3 -8,-4.3
Bottom Courtyard:
  circle w0.254: c45,0 r2.6
  circle w0.254: c-5,0 r2.6
Top Designator:
  text ".Designator" at 12.382,0.197 h1.52

## PhoenixContact_MSTBV_2,5_10-GF-5,08_1x10_P5.08mm_Vertical_ThreadedFlange [mm]
pads (10):
  rrect12% 2.08x3.6 hole 1.4: 1(0,0)
  rrect100% 2.08x3.6 hole 1.4: 2(5.08,0) 3(10.16,0) 4(15.24,0) 5(20.32,0) 6(25.4,0) 7(30.48,0) 8(35.56,0) 9(40.64,0) 10(45.72,0)
F.SilkS:
  circle w0.254: c50.8,0 r1.9
  circle w0.254: c50.8,0 r1
  circle w0.254: c-5.08,0 r1.9
  circle w0.254: c-5.08,0 r1
  lines w0.254: -7.73,4.1 -6.19,4.1 ; -4.08,4.1 -1,4.1 ; 1,4.1 4.08,4.1 ; 1.987,-2.216 cw(c0,-0.55) -2,-2.2 -2.74,-2.2 -2.74,3.1 48.46,3.1 48.46,-2.2 47.72,-2.2 ; 2,-2.2 3.08,-2.2 ccw(c5.08,-0.55) 7.067,-2.216 ; 6.08,4.1 9.16,4.1 ; 7.08,-2.2 8.16,-2.2 ccw(c10.16,-0.55) 12.147,-2.216 ; 11.16,4.1 14.24,4.1 ; 12.16,-2.2 13.24,-2.2 ccw(c15.24,-0.55) 17.227,-2.216 ; 16.24,4.1 19.32,4.1 ; 17.24,-2.2 18.32,-2.2 ccw(c20.32,-0.55) 22.307,-2.216 ; 21.32,4.1 24.4,4.1 ; 22.32,-2.2 23.4,-2.2 ccw(c25.4,-0.55) 27.387,-2.216 ; 26.4,4.1 29.48,4.1 ; 27.4,-2.2 28.48,-2.2 ccw(c30.48,-0.55) 32.467,-2.216 ; 31.48,4.1 34.56,4.1 ; 32.48,-2.2 33.56,-2.2 ccw(c35.56,-0.55) 37.547,-2.216 ; 36.56,4.1 39.64,4.1 ; 37.56,-2.2 38.64,-2.2 ccw(c40.64,-0.55) 42.627,-2.216 ; 41.64,4.1 44.72,4.1 ; 42.64,-2.2 43.72,-2.2 ccw(c45.72,-0.55) 47.707,-2.216 ; 46.72,4.1 49.8,4.1 ; 51.91,4.1 53.45,4.1 ; -7.73,-3.91 53.45,-3.91 53.45,4.91 -7.73,4.91 -7.73,-3.91 ; -6.08,3.1 -4.08,3.1 -4.08,4.91 -6.08,4.91 -6.08,3.1 ; -1,3.1 1,3.1 1,4.91 -1,4.91 -1,3.1 ; -0.3,5.71 0,5.11 0.3,5.71 -0.3,5.71 ; 4.08,3.1 6.08,3.1 6.08,4.91 4.08,4.91 4.08,3.1 ; 9.16,3.1 11.16,3.1 11.16,4.91 9.16,4.91 9.16,3.1 ; 14.24,3.1 16.24,3.1 16.24,4.91 14.24,4.91 14.24,3.1 ; 19.32,3.1 21.32,3.1 21.32,4.91 19.32,4.91 19.32,3.1 ; 24.4,3.1 26.4,3.1 26.4,4.91 24.4,4.91 24.4,3.1 ; 29.48,3.1 31.48,3.1 31.48,4.91 29.48,4.91 29.48,3.1 ; 34.56,3.1 36.56,3.1 36.56,4.91 34.56,4.91 34.56,3.1 ; 39.64,3.1 41.64,3.1 41.64,4.91 39.64,4.91 39.64,3.1 ; 44.72,3.1 46.72,3.1 46.72,4.91 44.72,4.91 44.72,3.1 ; 49.8,3.1 51.8,3.1 51.8,4.91 49.8,4.91 49.8,3.1
Top Assembly:
  lines w0.254: -7.62,-3.8 53.34,-3.8 53.34,4.8 -7.62,4.8 -7.62,-3.8 ; -0.5,3.55 0,2.55 0.5,3.55 -0.5,3.55
  text "'.Designator'" at 18.813,3.26 h1
Top Courtyard:
  lines w0.254: -8.13,-4.3 53.84,-4.3 53.84,5.3 -8.13,5.3 -8.13,-4.3
Top Designator:
  text ".Designator" at 15.237,0.197 h1.52

## PhoenixContact_MSTBV_2,5_10-GF-5,08_1x10_P5.08mm_Vertical_ThreadedFlange_MountHole [mm]
pads (12):
  rrect12% 2.08x3.6 hole 1.4: 1(0,0)
  rrect100% 2.08x3.6 hole 1.4: 2(5.08,0) 3(10.16,0) 4(15.24,0) 5(20.32,0) 6(25.4,0) 7(30.48,0) 8(35.56,0) 9(40.64,0) 10(45.72,0)
  round 2.4 hole 2.4: Un1(-5.08,0) Un2(50.8,0)
F.SilkS:
  circle w0.254: c50.8,0 r1.9
  circle w0.254: c-5.08,0 r1.9
  lines w0.254: -7.73,4.1 -6.19,4.1 ; -4.08,4.1 -1,4.1 ; 1,4.1 4.08,4.1 ; 1.987,-2.216 cw(c0,-0.55) -2,-2.2 -2.74,-2.2 -2.74,3.1 48.46,3.1 48.46,-2.2 47.72,-2.2 ; 2,-2.2 3.08,-2.2 ccw(c5.08,-0.55) 7.067,-2.216 ; 6.08,4.1 9.16,4.1 ; 7.08,-2.2 8.16,-2.2 ccw(c10.16,-0.55) 12.147,-2.216 ; 11.16,4.1 14.24,4.1 ; 12.16,-2.2 13.24,-2.2 ccw(c15.24,-0.55) 17.227,-2.216 ; 16.24,4.1 19.32,4.1 ; 17.24,-2.2 18.32,-2.2 ccw(c20.32,-0.55) 22.307,-2.216 ; 21.32,4.1 24.4,4.1 ; 22.32,-2.2 23.4,-2.2 ccw(c25.4,-0.55) 27.387,-2.216 ; 26.4,4.1 29.48,4.1 ; 27.4,-2.2 28.48,-2.2 ccw(c30.48,-0.55) 32.467,-2.216 ; 31.48,4.1 34.56,4.1 ; 32.48,-2.2 33.56,-2.2 ccw(c35.56,-0.55) 37.547,-2.216 ; 36.56,4.1 39.64,4.1 ; 37.56,-2.2 38.64,-2.2 ccw(c40.64,-0.55) 42.627,-2.216 ; 41.64,4.1 44.72,4.1 ; 42.64,-2.2 43.72,-2.2 ccw(c45.72,-0.55) 47.707,-2.216 ; 46.72,4.1 49.8,4.1 ; 51.91,4.1 53.45,4.1 ; -7.73,-3.91 53.45,-3.91 53.45,4.91 -7.73,4.91 -7.73,-3.91 ; -6.08,3.1 -4.08,3.1 -4.08,4.91 -6.08,4.91 -6.08,3.1 ; -1,3.1 1,3.1 1,4.91 -1,4.91 -1,3.1 ; -0.3,5.71 0,5.11 0.3,5.71 -0.3,5.71 ; 4.08,3.1 6.08,3.1 6.08,4.91 4.08,4.91 4.08,3.1 ; 9.16,3.1 11.16,3.1 11.16,4.91 9.16,4.91 9.16,3.1 ; 14.24,3.1 16.24,3.1 16.24,4.91 14.24,4.91 14.24,3.1 ; 19.32,3.1 21.32,3.1 21.32,4.91 19.32,4.91 19.32,3.1 ; 24.4,3.1 26.4,3.1 26.4,4.91 24.4,4.91 24.4,3.1 ; 29.48,3.1 31.48,3.1 31.48,4.91 29.48,4.91 29.48,3.1 ; 34.56,3.1 36.56,3.1 36.56,4.91 34.56,4.91 34.56,3.1 ; 39.64,3.1 41.64,3.1 41.64,4.91 39.64,4.91 39.64,3.1 ; 44.72,3.1 46.72,3.1 46.72,4.91 44.72,4.91 44.72,3.1 ; 49.8,3.1 51.8,3.1 51.8,4.91 49.8,4.91 49.8,3.1
B.SilkS:
  circle w0.254: c50.8,0 r2.21
  circle w0.254: c-5.08,0 r2.21
Top Assembly:
  lines w0.254: -7.62,-3.8 53.34,-3.8 53.34,4.8 -7.62,4.8 -7.62,-3.8 ; -0.5,3.55 0,2.55 0.5,3.55 -0.5,3.55
  text "'.Designator'" at 18.813,3.26 h1
Bottom Assembly:
  circle w0.254: c50.8,0 r2.1
  circle w0.254: c-5.08,0 r2.1
Top Courtyard:
  lines w0.254: -8.13,-4.3 53.84,-4.3 53.84,5.3 -8.13,5.3 -8.13,-4.3
Bottom Courtyard:
  circle w0.254: c50.8,0 r2.6
  circle w0.254: c-5.08,0 r2.6
Top Designator:
  text ".Designator" at 15.237,0.197 h1.52

## PhoenixContact_MSTBV_2,5_10-GF_1x10_P5.00mm_Vertical_ThreadedFlange [mm]
pads (10):
  rrect12% 2x3.6 hole 1.4: 1(0,0)
  rrect100% 2x3.6 hole 1.4: 2(5,0) 3(10,0) 4(15,0) 5(20,0) 6(25,0) 7(30,0) 8(35,0) 9(40,0) 10(45,0)
F.SilkS:
  circle w0.254: c50,0 r1.9
  circle w0.254: c50,0 r1
  circle w0.254: c-5,0 r1.9
  circle w0.254: c-5,0 r1
  lines w0.254: -7.61,4.1 -6.11,4.1 ; -4,4.1 -1,4.1 ; 1,4.1 4,4.1 ; 1.987,-2.216 cw(c0,-0.55) -2,-2.2 -2.7,-2.2 -2.7,3.1 47.7,3.1 47.7,-2.2 47,-2.2 ; 2,-2.2 3,-2.2 ccw(c5,-0.55) 6.987,-2.216 ; 6,4.1 9,4.1 ; 7,-2.2 8,-2.2 ccw(c10,-0.55) 11.987,-2.216 ; 11,4.1 14,4.1 ; 12,-2.2 13,-2.2 ccw(c15,-0.55) 16.987,-2.216 ; 16,4.1 19,4.1 ; 17,-2.2 18,-2.2 ccw(c20,-0.55) 21.987,-2.216 ; 21,4.1 24,4.1 ; 22,-2.2 23,-2.2 ccw(c25,-0.55) 26.987,-2.216 ; 26,4.1 29,4.1 ; 27,-2.2 28,-2.2 ccw(c30,-0.55) 31.987,-2.216 ; 31,4.1 34,4.1 ; 32,-2.2 33,-2.2 ccw(c35,-0.55) 36.987,-2.216 ; 36,4.1 39,4.1 ; 37,-2.2 38,-2.2 ccw(c40,-0.55) 41.987,-2.216 ; 41,4.1 44,4.1 ; 42,-2.2 43,-2.2 ccw(c45,-0.55) 46.987,-2.216 ; 46,4.1 49,4.1 ; 51.11,4.1 52.61,4.1 ; -7.61,-3.91 52.61,-3.91 52.61,4.91 -7.61,4.91 -7.61,-3.91 ; -6,3.1 -4,3.1 -4,4.91 -6,4.91 -6,3.1 ; -1,3.1 1,3.1 1,4.91 -1,4.91 -1,3.1 ; -0.3,5.71 0,5.11 0.3,5.71 -0.3,5.71 ; 4,3.1 6,3.1 6,4.91 4,4.91 4,3.1 ; 9,3.1 11,3.1 11,4.91 9,4.91 9,3.1 ; 14,3.1 16,3.1 16,4.91 14,4.91 14,3.1 ; 19,3.1 21,3.1 21,4.91 19,4.91 19,3.1 ; 24,3.1 26,3.1 26,4.91 24,4.91 24,3.1 ; 29,3.1 31,3.1 31,4.91 29,4.91 29,3.1 ; 34,3.1 36,3.1 36,4.91 34,4.91 34,3.1 ; 39,3.1 41,3.1 41,4.91 39,4.91 39,3.1 ; 44,3.1 46,3.1 46,4.91 44,4.91 44,3.1 ; 49,3.1 51,3.1 51,4.91 49,4.91 49,3.1
Top Assembly:
  lines w0.254: -7.5,-3.8 52.5,-3.8 52.5,4.8 -7.5,4.8 -7.5,-3.8 ; -0.5,3.55 0,2.55 0.5,3.55 -0.5,3.55
  text "'.Designator'" at 18.453,3.26 h1
Top Courtyard:
  lines w0.254: -8,-4.3 53,-4.3 53,5.3 -8,5.3 -8,-4.3
Top Designator:
  text ".Designator" at 14.882,0.197 h1.52

## PhoenixContact_MSTBV_2,5_10-GF_1x10_P5.00mm_Vertical_ThreadedFlange_MountHole [mm]
pads (12):
  rrect12% 2x3.6 hole 1.4: 1(0,0)
  rrect100% 2x3.6 hole 1.4: 2(5,0) 3(10,0) 4(15,0) 5(20,0) 6(25,0) 7(30,0) 8(35,0) 9(40,0) 10(45,0)
  round 2.4 hole 2.4: Un1(-5,0) Un2(50,0)
F.SilkS:
  circle w0.254: c50,0 r1.9
  circle w0.254: c-5,0 r1.9
  lines w0.254: -7.61,4.1 -6.11,4.1 ; -4,4.1 -1,4.1 ; 1,4.1 4,4.1 ; 1.987,-2.216 cw(c0,-0.55) -2,-2.2 -2.7,-2.2 -2.7,3.1 47.7,3.1 47.7,-2.2 47,-2.2 ; 2,-2.2 3,-2.2 ccw(c5,-0.55) 6.987,-2.216 ; 6,4.1 9,4.1 ; 7,-2.2 8,-2.2 ccw(c10,-0.55) 11.987,-2.216 ; 11,4.1 14,4.1 ; 12,-2.2 13,-2.2 ccw(c15,-0.55) 16.987,-2.216 ; 16,4.1 19,4.1 ; 17,-2.2 18,-2.2 ccw(c20,-0.55) 21.987,-2.216 ; 21,4.1 24,4.1 ; 22,-2.2 23,-2.2 ccw(c25,-0.55) 26.987,-2.216 ; 26,4.1 29,4.1 ; 27,-2.2 28,-2.2 ccw(c30,-0.55) 31.987,-2.216 ; 31,4.1 34,4.1 ; 32,-2.2 33,-2.2 ccw(c35,-0.55) 36.987,-2.216 ; 36,4.1 39,4.1 ; 37,-2.2 38,-2.2 ccw(c40,-0.55) 41.987,-2.216 ; 41,4.1 44,4.1 ; 42,-2.2 43,-2.2 ccw(c45,-0.55) 46.987,-2.216 ; 46,4.1 49,4.1 ; 51.11,4.1 52.61,4.1 ; -7.61,-3.91 52.61,-3.91 52.61,4.91 -7.61,4.91 -7.61,-3.91 ; -6,3.1 -4,3.1 -4,4.91 -6,4.91 -6,3.1 ; -1,3.1 1,3.1 1,4.91 -1,4.91 -1,3.1 ; -0.3,5.71 0,5.11 0.3,5.71 -0.3,5.71 ; 4,3.1 6,3.1 6,4.91 4,4.91 4,3.1 ; 9,3.1 11,3.1 11,4.91 9,4.91 9,3.1 ; 14,3.1 16,3.1 16,4.91 14,4.91 14,3.1 ; 19,3.1 21,3.1 21,4.91 19,4.91 19,3.1 ; 24,3.1 26,3.1 26,4.91 24,4.91 24,3.1 ; 29,3.1 31,3.1 31,4.91 29,4.91 29,3.1 ; 34,3.1 36,3.1 36,4.91 34,4.91 34,3.1 ; 39,3.1 41,3.1 41,4.91 39,4.91 39,3.1 ; 44,3.1 46,3.1 46,4.91 44,4.91 44,3.1 ; 49,3.1 51,3.1 51,4.91 49,4.91 49,3.1
B.SilkS:
  circle w0.254: c50,0 r2.21
  circle w0.254: c-5,0 r2.21
Top Assembly:
  lines w0.254: -7.5,-3.8 52.5,-3.8 52.5,4.8 -7.5,4.8 -7.5,-3.8 ; -0.5,3.55 0,2.55 0.5,3.55 -0.5,3.55
  text "'.Designator'" at 18.453,3.26 h1
Bottom Assembly:
  circle w0.254: c50,0 r2.1
  circle w0.254: c-5,0 r2.1
Top Courtyard:
  lines w0.254: -8,-4.3 53,-4.3 53,5.3 -8,5.3 -8,-4.3
Bottom Courtyard:
  circle w0.254: c50,0 r2.6
  circle w0.254: c-5,0 r2.6
Top Designator:
  text ".Designator" at 14.882,0.197 h1.52

## PhoenixContact_MSTBV_2,5_11-GF-5,08_1x11_P5.08mm_Vertical_ThreadedFlange [mm]
pads (11):
  rrect12% 2.08x3.6 hole 1.4: 1(0,0)
  rrect100% 2.08x3.6 hole 1.4: 2(5.08,0) 3(10.16,0) 4(15.24,0) 5(20.32,0) 6(25.4,0) 7(30.48,0) 8(35.56,0) 9(40.64,0) 10(45.72,0) 11(50.8,0)
F.SilkS:
  circle w0.254: c55.88,0 r1.9
  circle w0.254: c55.88,0 r1
  circle w0.254: c-5.08,0 r1.9
  circle w0.254: c-5.08,0 r1
  lines w0.254: -7.73,4.1 -6.19,4.1 ; -4.08,4.1 -1,4.1 ; 1,4.1 4.08,4.1 ; 1.987,-2.216 cw(c0,-0.55) -2,-2.2 -2.74,-2.2 -2.74,3.1 53.54,3.1 53.54,-2.2 52.8,-2.2 ; 2,-2.2 3.08,-2.2 ccw(c5.08,-0.55) 7.067,-2.216 ; 6.08,4.1 9.16,4.1 ; 7.08,-2.2 8.16,-2.2 ccw(c10.16,-0.55) 12.147,-2.216 ; 11.16,4.1 14.24,4.1 ; 12.16,-2.2 13.24,-2.2 ccw(c15.24,-0.55) 17.227,-2.216 ; 16.24,4.1 19.32,4.1 ; 17.24,-2.2 18.32,-2.2 ccw(c20.32,-0.55) 22.307,-2.216 ; 21.32,4.1 24.4,4.1 ; 22.32,-2.2 23.4,-2.2 ccw(c25.4,-0.55) 27.387,-2.216 ; 26.4,4.1 29.48,4.1 ; 27.4,-2.2 28.48,-2.2 ccw(c30.48,-0.55) 32.467,-2.216 ; 31.48,4.1 34.56,4.1 ; 32.48,-2.2 33.56,-2.2 ccw(c35.56,-0.55) 37.547,-2.216 ; 36.56,4.1 39.64,4.1 ; 37.56,-2.2 38.64,-2.2 ccw(c40.64,-0.55) 42.627,-2.216 ; 41.64,4.1 44.72,4.1 ; 42.64,-2.2 43.72,-2.2 ccw(c45.72,-0.55) 47.707,-2.216 ; 46.72,4.1 49.8,4.1 ; 47.72,-2.2 48.8,-2.2 ccw(c50.8,-0.55) 52.787,-2.216 ; 51.8,4.1 54.88,4.1 ; 56.99,4.1 58.53,4.1 ; -7.73,-3.91 58.53,-3.91 58.53,4.91 -7.73,4.91 -7.73,-3.91 ; -6.08,3.1 -4.08,3.1 -4.08,4.91 -6.08,4.91 -6.08,3.1 ; -1,3.1 1,3.1 1,4.91 -1,4.91 -1,3.1 ; -0.3,5.71 0,5.11 0.3,5.71 -0.3,5.71 ; 4.08,3.1 6.08,3.1 6.08,4.91 4.08,4.91 4.08,3.1 ; 9.16,3.1 11.16,3.1 11.16,4.91 9.16,4.91 9.16,3.1 ; 14.24,3.1 16.24,3.1 16.24,4.91 14.24,4.91 14.24,3.1 ; 19.32,3.1 21.32,3.1 21.32,4.91 19.32,4.91 19.32,3.1 ; 24.4,3.1 26.4,3.1 26.4,4.91 24.4,4.91 24.4,3.1 ; 29.48,3.1 31.48,3.1 31.48,4.91 29.48,4.91 29.48,3.1 ; 34.56,3.1 36.56,3.1 36.56,4.91 34.56,4.91 34.56,3.1 ; 39.64,3.1 41.64,3.1 41.64,4.91 39.64,4.91 39.64,3.1 ; 44.72,3.1 46.72,3.1 46.72,4.91 44.72,4.91 44.72,3.1 ; 49.8,3.1 51.8,3.1 51.8,4.91 49.8,4.91 49.8,3.1 ; 54.88,3.1 56.88,3.1 56.88,4.91 54.88,4.91 54.88,3.1
Top Assembly:
  lines w0.254: -7.62,-3.8 58.42,-3.8 58.42,4.8 -7.62,4.8 -7.62,-3.8 ; -0.5,3.55 0,2.55 0.5,3.55 -0.5,3.55
  text "'.Designator'" at 21.353,3.26 h1
Top Courtyard:
  lines w0.254: -8.13,-4.3 58.92,-4.3 58.92,5.3 -8.13,5.3 -8.13,-4.3
Top Designator:
  text ".Designator" at 17.777,0.197 h1.52

## PhoenixContact_MSTBV_2,5_11-GF-5,08_1x11_P5.08mm_Vertical_ThreadedFlange_MountHole [mm]
pads (13):
  rrect12% 2.08x3.6 hole 1.4: 1(0,0)
  rrect100% 2.08x3.6 hole 1.4: 2(5.08,0) 3(10.16,0) 4(15.24,0) 5(20.32,0) 6(25.4,0) 7(30.48,0) 8(35.56,0) 9(40.64,0) 10(45.72,0) 11(50.8,0)
  round 2.4 hole 2.4: Un1(-5.08,0) Un2(55.88,0)
F.SilkS:
  circle w0.254: c55.88,0 r1.9
  circle w0.254: c-5.08,0 r1.9
  lines w0.254: -7.73,4.1 -6.19,4.1 ; -4.08,4.1 -1,4.1 ; 1,4.1 4.08,4.1 ; 1.987,-2.216 cw(c0,-0.55) -2,-2.2 -2.74,-2.2 -2.74,3.1 53.54,3.1 53.54,-2.2 52.8,-2.2 ; 2,-2.2 3.08,-2.2 ccw(c5.08,-0.55) 7.067,-2.216 ; 6.08,4.1 9.16,4.1 ; 7.08,-2.2 8.16,-2.2 ccw(c10.16,-0.55) 12.147,-2.216 ; 11.16,4.1 14.24,4.1 ; 12.16,-2.2 13.24,-2.2 ccw(c15.24,-0.55) 17.227,-2.216 ; 16.24,4.1 19.32,4.1 ; 17.24,-2.2 18.32,-2.2 ccw(c20.32,-0.55) 22.307,-2.216 ; 21.32,4.1 24.4,4.1 ; 22.32,-2.2 23.4,-2.2 ccw(c25.4,-0.55) 27.387,-2.216 ; 26.4,4.1 29.48,4.1 ; 27.4,-2.2 28.48,-2.2 ccw(c30.48,-0.55) 32.467,-2.216 ; 31.48,4.1 34.56,4.1 ; 32.48,-2.2 33.56,-2.2 ccw(c35.56,-0.55) 37.547,-2.216 ; 36.56,4.1 39.64,4.1 ; 37.56,-2.2 38.64,-2.2 ccw(c40.64,-0.55) 42.627,-2.216 ; 41.64,4.1 44.72,4.1 ; 42.64,-2.2 43.72,-2.2 ccw(c45.72,-0.55) 47.707,-2.216 ; 46.72,4.1 49.8,4.1 ; 47.72,-2.2 48.8,-2.2 ccw(c50.8,-0.55) 52.787,-2.216 ; 51.8,4.1 54.88,4.1 ; 56.99,4.1 58.53,4.1 ; -7.73,-3.91 58.53,-3.91 58.53,4.91 -7.73,4.91 -7.73,-3.91 ; -6.08,3.1 -4.08,3.1 -4.08,4.91 -6.08,4.91 -6.08,3.1 ; -1,3.1 1,3.1 1,4.91 -1,4.91 -1,3.1 ; -0.3,5.71 0,5.11 0.3,5.71 -0.3,5.71 ; 4.08,3.1 6.08,3.1 6.08,4.91 4.08,4.91 4.08,3.1 ; 9.16,3.1 11.16,3.1 11.16,4.91 9.16,4.91 9.16,3.1 ; 14.24,3.1 16.24,3.1 16.24,4.91 14.24,4.91 14.24,3.1 ; 19.32,3.1 21.32,3.1 21.32,4.91 19.32,4.91 19.32,3.1 ; 24.4,3.1 26.4,3.1 26.4,4.91 24.4,4.91 24.4,3.1 ; 29.48,3.1 31.48,3.1 31.48,4.91 29.48,4.91 29.48,3.1 ; 34.56,3.1 36.56,3.1 36.56,4.91 34.56,4.91 34.56,3.1 ; 39.64,3.1 41.64,3.1 41.64,4.91 39.64,4.91 39.64,3.1 ; 44.72,3.1 46.72,3.1 46.72,4.91 44.72,4.91 44.72,3.1 ; 49.8,3.1 51.8,3.1 51.8,4.91 49.8,4.91 49.8,3.1 ; 54.88,3.1 56.88,3.1 56.88,4.91 54.88,4.91 54.88,3.1
B.SilkS:
  circle w0.254: c55.88,0 r2.21
  circle w0.254: c-5.08,0 r2.21
Top Assembly:
  lines w0.254: -7.62,-3.8 58.42,-3.8 58.42,4.8 -7.62,4.8 -7.62,-3.8 ; -0.5,3.55 0,2.55 0.5,3.55 -0.5,3.55
  text "'.Designator'" at 21.353,3.26 h1
Bottom Assembly:
  circle w0.254: c55.88,0 r2.1
  circle w0.254: c-5.08,0 r2.1
Top Courtyard:
  lines w0.254: -8.13,-4.3 58.92,-4.3 58.92,5.3 -8.13,5.3 -8.13,-4.3
Bottom Courtyard:
  circle w0.254: c55.88,0 r2.6
  circle w0.254: c-5.08,0 r2.6
Top Designator:
  text ".Designator" at 17.777,0.197 h1.52